# Altium footprint library Diode_PcbLib.PcbLib: 13 footprints
Each footprint in its own frame and in the unit in brackets; x right, y up, seen from the top. Pads: shape width x height; smd on the part's side, far side on the other; paste and mask are expansions set on the pad; w line width, h text height; cw(c..) or ccw(c..) is an arc to the next point about the centre after c.
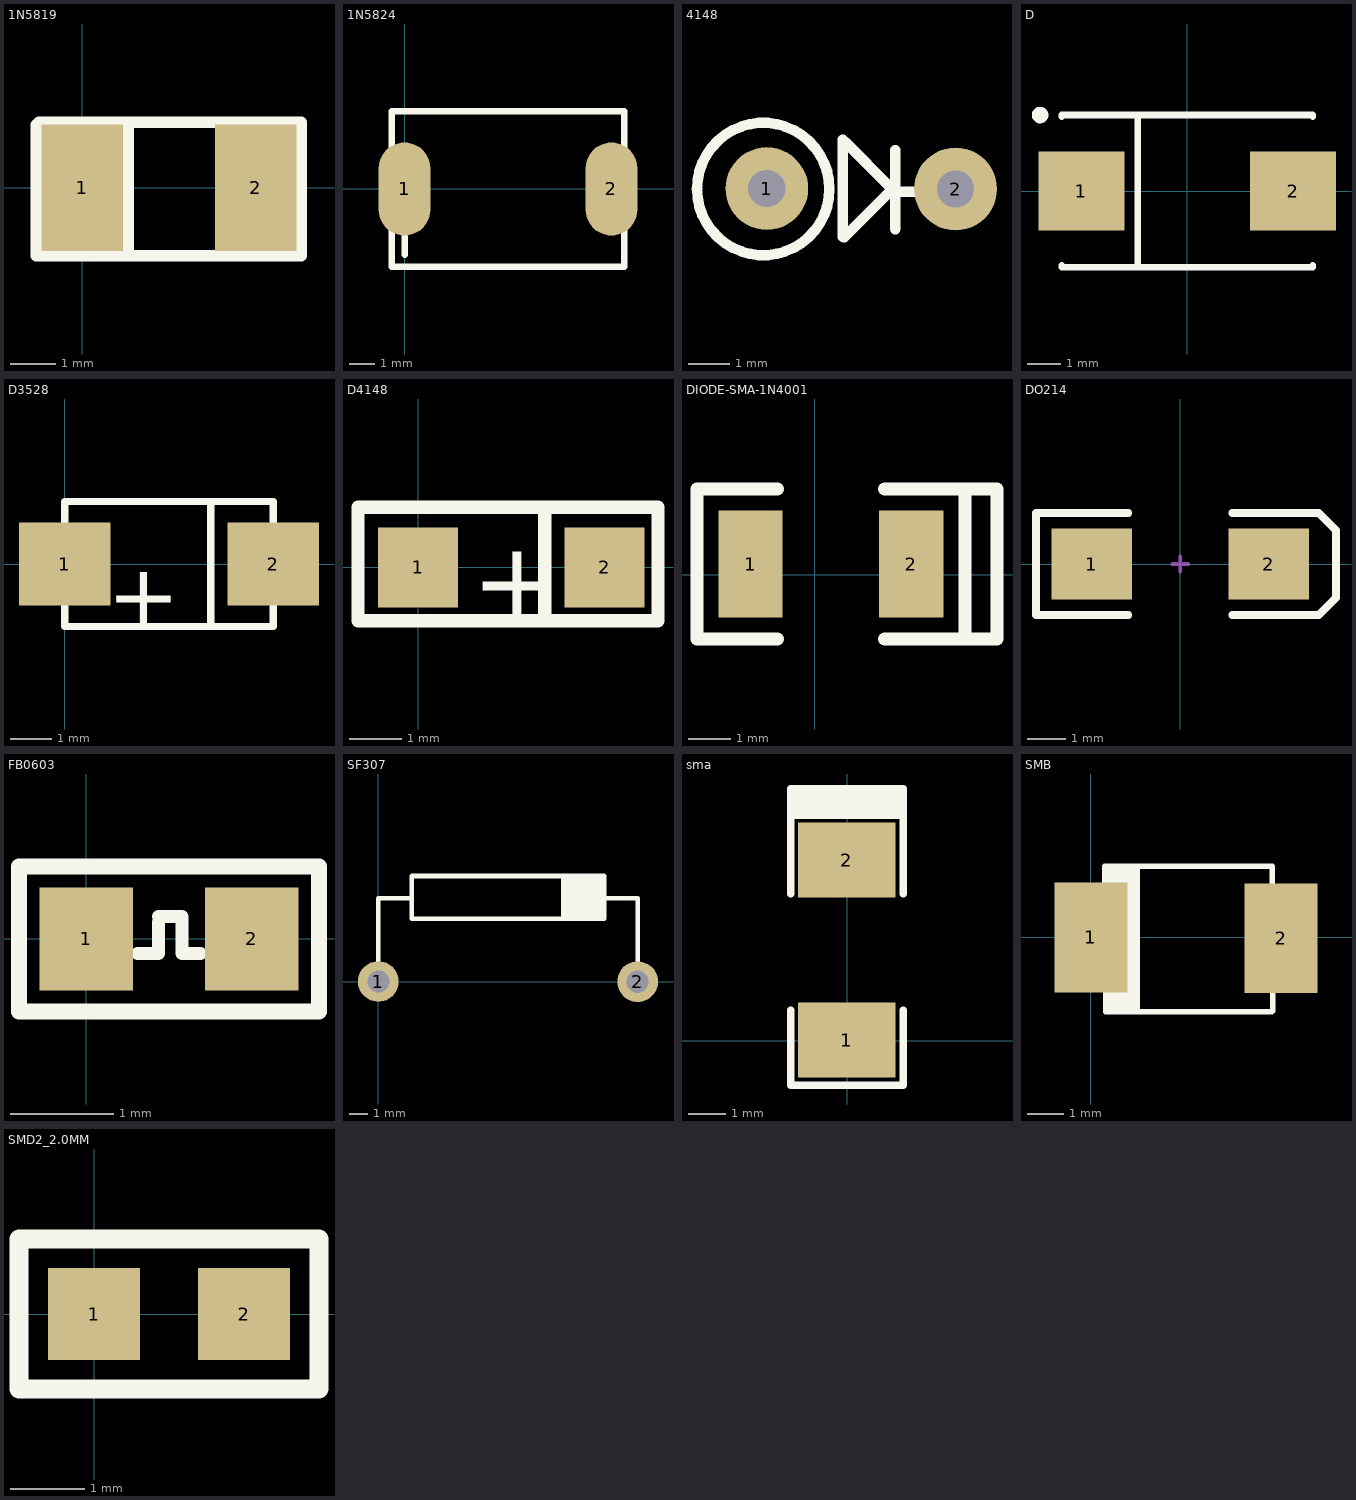
[diagram p0: the footprints below, top view; thin cyan lines are the x and y axes]

## 1N5819 [mm]
pads (2):
  rect 1.8x2.8 smd: 1(0,0) 2(3.837,0)
Top Overlay:
  lines w0.254: 1.016,-1.5 1.016,1.445 ; -1.018,-1.5 4.846,-1.5 4.846,1.445 -0.962,1.445 -1.018,1.389 -1.018,-1.5

## 1N5824 [mm]
pads (2):
  oval 2x3.6 smd: 1(0,0) 2(8,0)
Top Overlay:
  lines w0.254: 0,-2.54 0,-1.84 ; -0.5,-3 -0.5,3 8.5,3 8.5,-3 -0.5,-3

## 4148 [mm]
pads (2):
  round 2 hole 0.9: 1(-114.288,37.094) 2(-109.728,37.084)
Top Overlay:
  circle w0.254: c-114.376,37.084 r1.6
  lines w0.254: -112.459,35.925 -112.46,38.27 ; -112.417,35.918 -111.317,37.018 ; -112.391,38.219 -111.291,37.119 ; -111.19,36.118 -111.19,37.018 -109.63,37.018 ; -111.19,37.119 -111.19,38.019

## D [mm] "Capacitor, SM Tantalum; Body 7.3 x 4.3 mm (LxW typ)"
height 3.1
pads (2):
  rect 2.6x2.4 smd: 1(-3.2,0) 2(3.2,0)
Top Overlay:
  circle w0.25: c-4.45,2.3 r0.125
  lines w0.2: -3.8,-2.25 -3.8,-2.3 3.8,-2.3 3.8,-2.25 ; -3.8,2.25 -3.8,2.3 3.8,2.3 3.8,2.25 ; -1.5,-2.3 -1.5,2.3

## D3528 [mm]
pads (2):
  rect 2.2x2 smd: 1(0,0) 2(5,0)
Top Overlay:
  lines w0.178: 0,-1 0,-1.5 5,-1.5 5,-1 ; 0,1 0,1.5 5,1.5 5,1 ; 3.5,-1.5 3.5,1.5
  text "+" at 1.016,-1.5 h1.52

## D4148 [mil]
pads (2):
  rect 60x60 smd: 1(0,0) 2(140,0)
Top Overlay:
  lines w10: 95,-35 95,45 ; -45,-40 -45,45 180,45 180,-40 -45,-40
  text "+" at 40,-40 h60

## DIODE-SMA-1N4001 [mil]
pads (2):
  rect 60x100 smd: 1(-60,10) 2(90,10)
Top Overlay:
  lines w12: -35,-60 -110,-60 -110,80 -35,80 ; 65,80 140,80 ; 140,-60 170,-60 170,80 140,80 ; 140,-60 65,-60 140,-60 ; 140,-60 140,80

## DO214 [mm] "DO-214-AC/SMA; 2 C-Bend Leads; Body 5.3 x 2.6 mm, inc. leads (LxW)"
height 2.3
pads (2):
  rect 2.1x1.85 smd: 1(-2.3,0) 2(2.3,0)
Top Overlay:
  lines w0.2: -1.35,-1.325 -3.75,-1.325 -3.75,1.325 -1.35,1.325 ; 1.35,-1.325 3.6,-1.325 4.05,-0.875 4.05,0.875 3.6,1.325 1.35,1.325
Mechanical 1:
  lines w0.1: -0.2,0 0.2,0 ; 0,-0.2 0,0.2

## FB0603 [mm]
pads (2):
  rect 0.9x1 smd: 1(0,0) 2(1.6,0)
Top Overlay:
  lines w0.127: 0.495,-0.14 0.699,-0.14 0.699,0.165 ; 0.699,0.216 0.927,0.216 0.927,-0.14 1.105,-0.14
  lines w0.152: -0.65,-0.7 2.25,-0.7 2.25,0.7 -0.65,0.7 -0.65,-0.7

## SF307 [mm]
pads (2):
  round 2.2 hole 1.2: 1(0,0) 2(14,-0.01)
Top Overlay:
  rectangle: 9.9,3.39 12.2,5.7
  lines w0.254: 0,0 0,4.5 1.8,4.5 ; 10,3.39 10,5.7 ; 12.2,4.49 14,4.49 14,-0.01 ; 1.8,3.39 1.8,5.7 12.2,5.7 12.2,3.39 1.8,3.39

## sma [mm]
pads (2):
  rect 2.6x2 smd: 1(-0.007,0.012) 2(-0.007,4.812)
Top Overlay:
  rectangle: -1.507,6.112 1.493,6.712
  lines w0.2: -1.507,0.812 -1.507,-1.188 1.493,-1.188 1.493,0.812 ; -1.507,3.912 -1.507,6.112 ; 1.493,3.912 1.493,6.112 ; 1.493,5.912 1.493,6.712 -1.507,6.712 -1.507,6.012 1.493,6.012

## SMB [mm]
pads (2):
  rect 2x3 smd: 1(0,0) 2(5.207,-0.025)
Top Overlay:
  rectangle: 1.092,1.069 1.194,1.17
  rectangle: 0.305,1.069 1.092,1.196
  rectangle: 0.356,1.12 1.168,1.17
  rectangle: 0.889,-1.217 1.219,1.094
  rectangle: 0.406,1.12 1.219,1.907
  rectangle: 0.406,-1.166 1.219,-1.141
  rectangle: 0.356,-1.954 1.219,-1.166
  lines w0.152: 0.381,1.196 0.381,1.947 4.967,1.947 4.967,1.134 4.953,1.12 ; 0.406,-1.217 0.406,-2.03 4.953,-2.03 4.978,-2.005 4.978,-1.192 ; 1.219,-1.979 1.27,-1.928 1.27,1.907

## SMD2_2.0MM [mm]
pads (2):
  rect 1.25x1.25 smd: 1(0,0) 2(2.032,0)
Top Overlay:
  lines w0.254: -1.016,-1.016 -1.016,1.016 3.048,1.016 3.048,-1.016 -1.016,-1.016